# EAGLE library part 1296-T46 (library con-leotronics)
1.27mm SINGLE ROW FEMALE SOCKET Source: http://www.leotronics.co.uk/Conexcon/Data%20Sheets/sec.%20A/1296ing.pdf
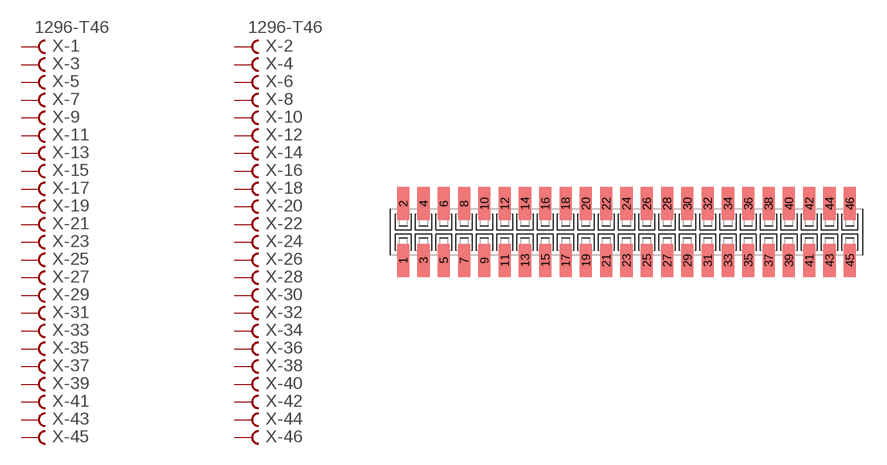
[diagram p20: symbol with the pads of 1296-46; footprint 1296-46]

Designator prefix X; gates -1=FVAL -2=FVAL -3=F -4=F -5=F -6=F -7=F -8=F -9=F -10=F -11=F -12=F -13=F -14=F -15=F -16=F -17=F -18=F -19=F -20=F -21=F -22=F -23=F -24=F -25=F -26=F -27=F -28=F -29=F -30=F -31=F -32=F -33=F -34=F -35=F -36=F -37=F -38=F -39=F -40=F -41=F -42=F -43=F -44=F -45=F -46=F

## 1296-T46  [1296-46]
1  -1:B  pas
2  -2:B  pas
3  -3:B  pas
4  -4:B  pas
5  -5:B  pas
6  -6:B  pas
7  -7:B  pas
8  -8:B  pas
9  -9:B  pas
10  -10:B  pas
11  -11:B  pas
12  -12:B  pas
13  -13:B  pas
14  -14:B  pas
15  -15:B  pas
16  -16:B  pas
17  -17:B  pas
18  -18:B  pas
19  -19:B  pas
20  -20:B  pas
21  -21:B  pas
22  -22:B  pas
23  -23:B  pas
24  -24:B  pas
25  -25:B  pas
26  -26:B  pas
27  -27:B  pas
28  -28:B  pas
29  -29:B  pas
30  -30:B  pas
31  -31:B  pas
32  -32:B  pas
33  -33:B  pas
34  -34:B  pas
35  -35:B  pas
36  -36:B  pas
37  -37:B  pas
38  -38:B  pas
39  -39:B  pas
40  -40:B  pas
41  -41:B  pas
42  -42:B  pas
43  -43:B  pas
44  -44:B  pas
45  -45:B  pas
46  -46:B  pas

## Footprint 1296-46 (pad centres in mm)
1.27mm SINGLE ROW FEMALE SOCKET Source: http://www.leotronics.co.uk/Conexcon/Data%20Sheets/sec.%20A/1296ing.pdf
smd 0.76 x 2.05: 1 -13.97,-1.78; 2 -13.97,1.78; 3 -12.7,-1.78; 4 -12.7,1.78; 5 -11.43,-1.78; 6 -11.43,1.78; 7 -10.16,-1.78; 8 -10.16,1.78; 9 -8.89,-1.78; 10 -8.89,1.78; 11 -7.62,-1.78; 12 -7.62,1.78; 13 -6.35,-1.78; 14 -6.35,1.78; 15 -5.08,-1.78; 16 -5.08,1.78; 17 -3.81,-1.78; 18 -3.81,1.78; 19 -2.54,-1.78; 20 -2.54,1.78; 21 -1.27,-1.78; 22 -1.27,1.78; 23 0,-1.78; 24 0,1.78; 25 1.27,-1.78; 26 1.27,1.78; 27 2.54,-1.78; 28 2.54,1.78; 29 3.81,-1.78; 30 3.81,1.78; 31 5.08,-1.78; 32 5.08,1.78; 33 6.35,-1.78; 34 6.35,1.78; 35 7.62,-1.78; 36 7.62,1.78; 37 8.89,-1.78; 38 8.89,1.78; 39 10.16,-1.78; 40 10.16,1.78; 41 11.43,-1.78; 42 11.43,1.78; 43 12.7,-1.78; 44 12.7,1.78; 45 13.97,-1.78; 46 13.97,1.78